# Altium footprint library FP-SMD-Passive.PcbLib: 73 footprints (part 1 of 5)
Each footprint in its own frame and in the unit in brackets; x right, y up, seen from the top. Pads: shape width x height; smd on the part's side, far side on the other; paste and mask are expansions set on the pad; w line width, h text height; cw(c..) or ccw(c..) is an arc to the next point about the centre after c.
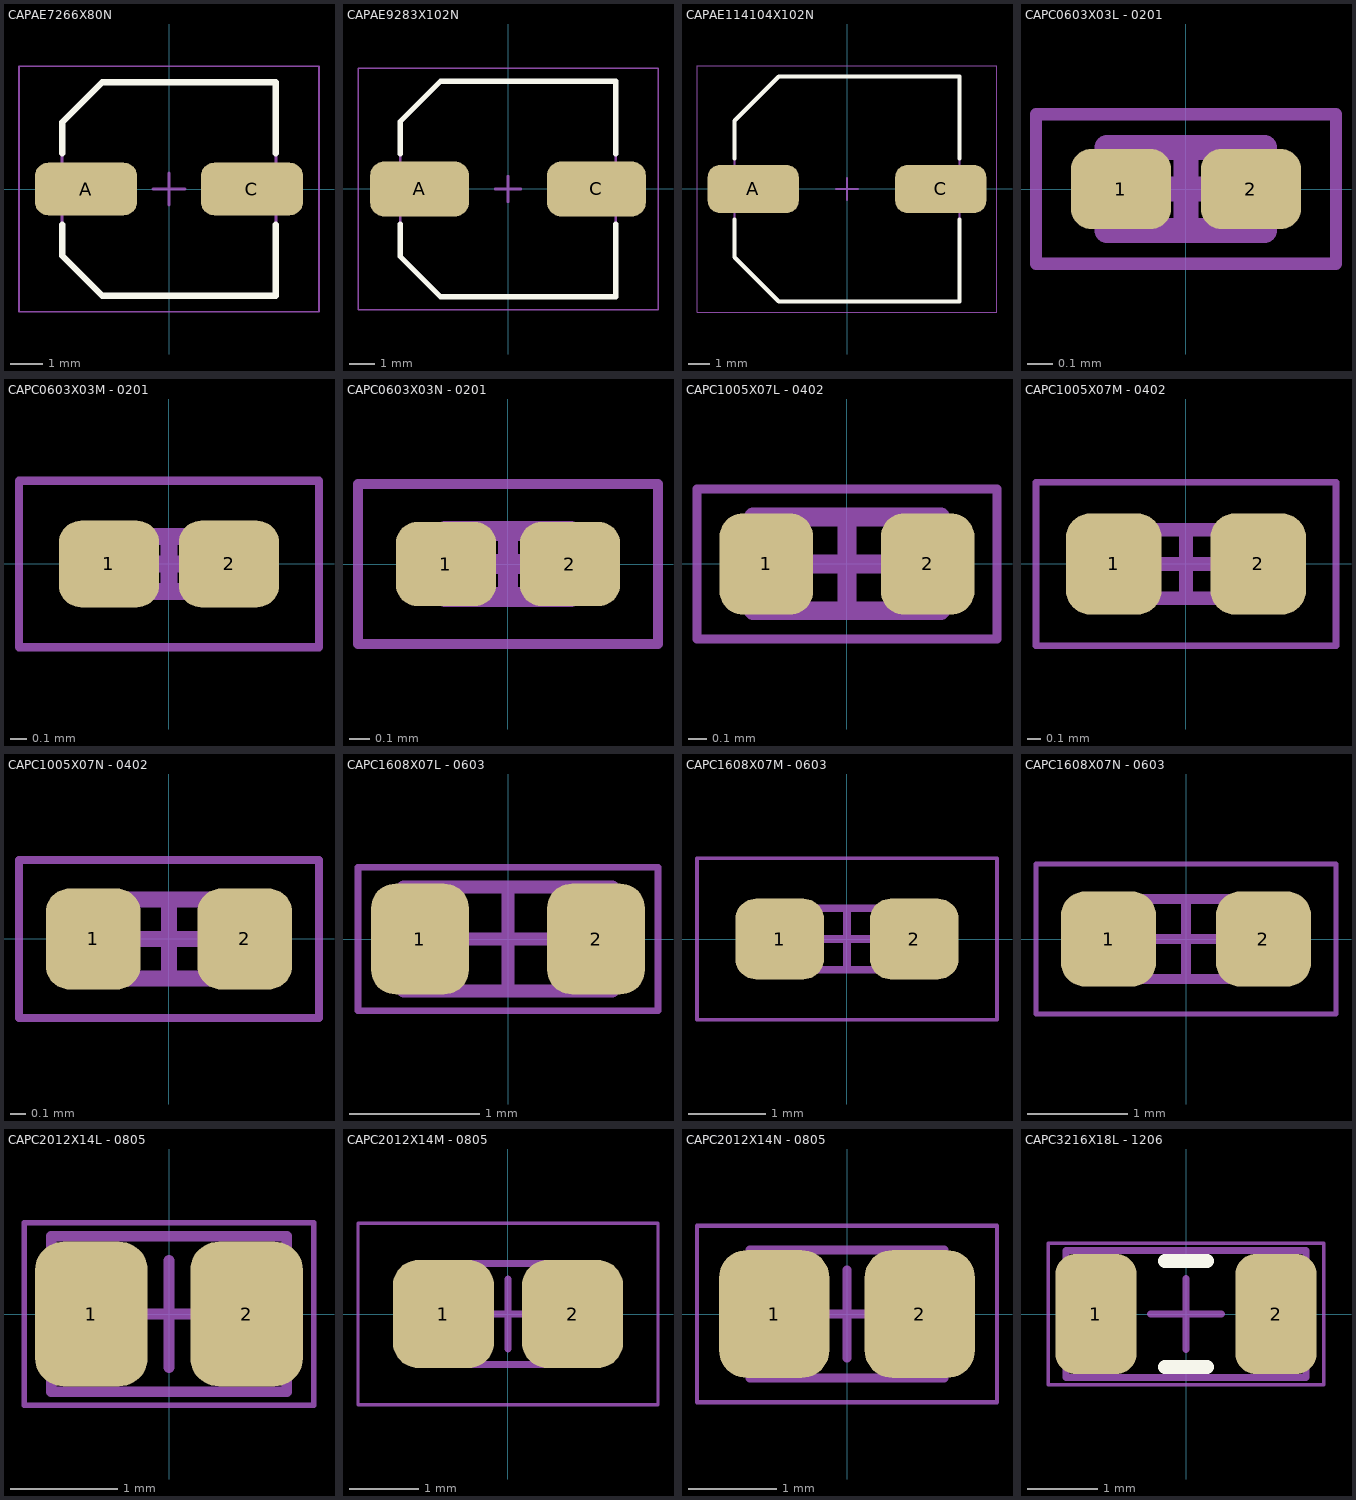
[diagram p0: the footprints below, top view; thin cyan lines are the x and y axes]

## CAPAE7266X80N [mm] "Aluminum Electrolytic Capacitor, Body 6/65x6/65x8/00mm, IPC Medium Density"
height 8
pads (2):
  rrect50% 3.2x1.65 smd: A(-2.6,0) C(2.6,0)
Top Overlay:
  lines w0.2: -3.35,-1.125 -3.35,-2.088 -2.087,-3.35 3.35,-3.35 3.35,-1.125 ; -3.35,1.125 -3.35,2.087 -2.087,3.35 3.35,3.35 3.35,1.125
Top Courtyard:
  lines w0.05: -4.7,-3.85 -4.7,3.85 4.7,3.85 4.7,-3.85 -4.7,-3.85
  lines w0.1: -0.5,0 0.5,0 ; 0,-0.5 0,0.5
Top Assembly:
  lines w0.1: -3.35,-2.088 -2.087,-3.35 3.35,-3.35 3.35,3.35 -2.087,3.35 -3.35,2.087 -3.35,-2.088
  text "'.Designator'" at 0.254,0.762 h1.52
3D body "CAPAE7266X80N.step": height 8, standoff 0, extent -3.625,-3.35 3.625,3.35

## CAPAE9283X102N [mm] "Aluminum Electrolytic Capacitor, Body 8/30x8/30x10/20mm, IPC Medium Density"
height 10.2
pads (2):
  rrect50% 3.85x2.15 smd: A(-3.45,0) C(3.45,0)
Top Overlay:
  lines w0.2: -4.2,-1.375 -4.2,-2.638 -2.638,-4.2 4.2,-4.2 4.2,-1.375 ; -4.2,1.375 -4.2,2.637 -2.638,4.2 4.2,4.2 4.2,1.375
Top Courtyard:
  lines w0.05: -5.85,-4.7 -5.85,4.7 5.85,4.7 5.85,-4.7 -5.85,-4.7
  lines w0.1: -0.5,0 0.5,0 ; 0,-0.5 0,0.5
Top Assembly:
  lines w0.1: -4.2,-2.638 -2.638,-4.2 4.2,-4.2 4.2,4.2 -2.638,4.2 -4.2,2.637 -4.2,-2.638
  text "'.Designator'" at 0.254,0.762 h1.52
3D body "CAPAE9283X102N.step": height 10.2, standoff 0, extent -4.587,-4.2 4.587,4.2

## CAPAE114104X102N [mm] "Aluminum Electrolytic Capacitor, Body 10/45x10/45x10/20mm, IPC Medium Density"
height 10.2
pads (2):
  rrect50% 4.25x2.25 smd: A(-4.375,0) C(4.375,0)
Top Overlay:
  lines w0.2: -5.25,-1.425 -5.25,-3.188 -3.187,-5.25 5.25,-5.25 5.25,-1.425 ; -5.25,1.425 -5.25,3.187 -3.187,5.25 5.25,5.25 5.25,1.425
Top Courtyard:
  lines w0.05: -7,-5.75 7,-5.75 7,5.75 -7,5.75 -7,-5.75
  lines w0.1: -0.5,0 0.5,0 ; 0,-0.5 0,0.5
Top Assembly:
  lines w0.1: -5.25,-3.188 -5.25,3.187 -3.187,5.25 5.25,5.25 5.25,-5.25 -3.187,-5.25 -5.25,-3.188
  text "'.Designator'" at 0.254,0.762 h1.52
3D body "CAPAE114104X102N.step": height 10.2, standoff 0, extent -5.725,-5.25 5.725,5.25

## CAPC0603X03L - 0201 [mm] "Chip Capacitor, 2-Leads, Body 0/60x0/30mm, IPC High Density"
height 0.33
pads (2):
  rrect50% 0.4x0.32 smd: 1(-0.26,0) 2(0.26,0)
Top Courtyard:
  lines w0.05: -0.6,-0.3 -0.6,0.3 0.6,0.3 0.6,-0.3 -0.6,-0.3
  lines w0.1: -0.165,0 0.165,0 ; 0,-0.165 0,0.165
Top Assembly:
  lines w0.1: -0.315,-0.165 -0.315,0.165 0.315,0.165 0.315,-0.165 -0.315,-0.165
  text "'.Designator'" at 0.1,0.3 h0.6
3D body "CAPC0603X03L.step": height 0.33, standoff 0, extent -0.315,-0.165 0.315,0.165

## CAPC0603X03M - 0201 [mm] "Chip Capacitor, 2-Leads, Body 0/60x0/30mm, IPC Low Density"
height 0.33
pads (2):
  rrect50% 0.6x0.52 smd: 1(-0.36,0) 2(0.36,0)
Top Courtyard:
  lines w0.05: -0.9,-0.5 -0.9,0.5 0.9,0.5 0.9,-0.5 -0.9,-0.5
  lines w0.1: -0.165,0 0.165,0 ; 0,-0.165 0,0.165
Top Assembly:
  lines w0.1: -0.315,-0.165 -0.315,0.165 0.315,0.165 0.315,-0.165 -0.315,-0.165
  text "'.Designator'" at 0.1,0.3 h0.6
3D body "CAPC0603X03M.step": height 0.33, standoff 0, extent -0.315,-0.165 0.315,0.165

## CAPC0603X03N - 0201 [mm] "Chip Capacitor, 2-Leads, Body 0/60x0/30mm, IPC Medium Density"
height 0.33
pads (2):
  rrect50% 0.5x0.42 smd: 1(-0.31,0) 2(0.31,0)
Top Courtyard:
  lines w0.05: -0.75,-0.4 -0.75,0.4 0.75,0.4 0.75,-0.4 -0.75,-0.4
  lines w0.1: -0.165,0 0.165,0 ; 0,-0.165 0,0.165
Top Assembly:
  lines w0.1: -0.315,-0.165 -0.315,0.165 0.315,0.165 0.315,-0.165 -0.315,-0.165
  text "'.Designator'" at 0.1,0.3 h0.6
3D body "CAPC0603X03N.step": height 0.33, standoff 0, extent -0.315,-0.165 0.315,0.165

## CAPC1005X07L - 0402 [mm] "Chip Capacitor, 2-Leads, Body 1/00x0/50mm, IPC High Density"
height 0.7
pads (2):
  rrect50% 0.5x0.54 smd: 1(-0.43,0) 2(0.43,0)
Top Courtyard:
  lines w0.05: -0.8,-0.4 -0.8,0.4 0.8,0.4 0.8,-0.4 -0.8,-0.4
  lines w0.1: -0.25,0 0.25,0 ; 0,-0.25 0,0.25
Top Assembly:
  lines w0.1: -0.5,-0.25 -0.5,0.25 0.5,0.25 0.5,-0.25 -0.5,-0.25
  text "'.Designator'" at 0.1,0.3 h0.6
3D body "CAPC1005X07L.step": height 0.7, standoff 0, extent -0.5,-0.25 0.5,0.25

## CAPC1005X07M - 0402 [mm] "Chip Capacitor, 2-Leads, Body 1/00x0/50mm, IPC Low Density"
height 0.7
pads (2):
  rrect50% 0.7x0.74 smd: 1(-0.53,0) 2(0.53,0)
Top Courtyard:
  lines w0.05: -1.1,-0.6 1.1,-0.6 1.1,0.6 -1.1,0.6 -1.1,-0.6
  lines w0.1: -0.25,0 0.25,0 ; 0,-0.25 0,0.25
Top Assembly:
  lines w0.1: -0.5,-0.25 0.5,-0.25 0.5,0.25 -0.5,0.25 -0.5,-0.25
  text "'.Designator'" at 0.1,0.3 h0.6
3D body "CAPC1005X07M.step": height 0.7, standoff 0, extent -0.5,-0.25 0.5,0.25

## CAPC1005X07N - 0402 [mm] "Chip Capacitor, 2-Leads, Body 1/00x0/50mm, IPC Medium Density"
height 0.7
pads (2):
  rrect50% 0.6x0.64 smd: 1(-0.48,0) 2(0.48,0)
Top Courtyard:
  lines w0.05: -0.95,-0.5 0.95,-0.5 0.95,0.5 -0.95,0.5 -0.95,-0.5
  lines w0.1: -0.25,0 0.25,0 ; 0,-0.25 0,0.25
Top Assembly:
  lines w0.1: -0.5,-0.25 0.5,-0.25 0.5,0.25 -0.5,0.25 -0.5,-0.25
  text "'.Designator'" at 0.1,0.3 h0.6
3D body "CAPC1005X07N.step": height 0.7, standoff 0, extent -0.5,-0.25 0.5,0.25

## CAPC1608X07L - 0603 [mm] "Chip Capacitor, 2-Leads, Body 1/60x0/80mm, IPC High Density"
height 0.7
pads (2):
  rrect50% 0.75x0.85 smd: 1(-0.675,0) 2(0.675,0)
Top Courtyard:
  lines w0.05: -1.15,-0.55 1.15,-0.55 1.15,0.55 -1.15,0.55 -1.15,-0.55
  lines w0.1: -0.4,0 0.4,0 ; 0,-0.4 0,0.4
Top Assembly:
  lines w0.1: -0.8,-0.4 0.8,-0.4 0.8,0.4 -0.8,0.4 -0.8,-0.4
  text "'.Designator'" at 0.1,0.3 h0.6
3D body "CAPC1608X07L.step": height 0.7, standoff 0, extent -0.8,-0.4 0.8,0.4

## CAPC1608X07M - 0603 [mm] "Chip Capacitor, 2-Leads, Body 1/60x0/80mm, IPC Low Density"
height 0.7
pads (2):
  rrect50% 1.15x1.05 smd: 1(-0.875,0) 2(0.875,0)
Top Courtyard:
  lines w0.05: -1.95,-1.05 -1.95,1.05 1.95,1.05 1.95,-1.05 -1.95,-1.05
  lines w0.1: -0.4,0 0.4,0 ; 0,-0.4 0,0.4
Top Assembly:
  lines w0.1: -0.8,-0.4 -0.8,0.4 0.8,0.4 0.8,-0.4 -0.8,-0.4
  text "'.Designator'" at 0.1,0.3 h0.6
3D body "CAPC1608X07M.step": height 0.7, standoff 0, extent -0.8,-0.4 0.8,0.4

## CAPC1608X07N - 0603 [mm] "Chip Capacitor, 2-Leads, Body 1/60x0/80mm, IPC Medium Density"
height 0.7
pads (2):
  rrect50% 0.95x0.95 smd: 1(-0.775,0) 2(0.775,0)
Top Courtyard:
  lines w0.05: -1.5,-0.75 -1.5,0.75 1.5,0.75 1.5,-0.75 -1.5,-0.75
  lines w0.1: -0.4,0 0.4,0 ; 0,-0.4 0,0.4
Top Assembly:
  lines w0.1: -0.8,-0.4 -0.8,0.4 0.8,0.4 0.8,-0.4 -0.8,-0.4
  text "'.Designator'" at 0.1,0.3 h0.6
3D body "CAPC1608X07N.step": height 0.7, standoff 0, extent -0.8,-0.4 0.8,0.4

## CAPC2012X14L - 0805 [mm] "Chip Capacitor, 2-Leads, Body 2/00x1/25mm, IPC High Density"
height 1.45
pads (2):
  rrect50% 1.05x1.35 smd: 1(-0.725,0) 2(0.725,0)
Top Courtyard:
  lines w0.05: -1.35,-0.85 1.35,-0.85 1.35,0.85 -1.35,0.85 -1.35,-0.85
  lines w0.1: -0.5,0 0.5,0 ; 0,-0.5 0,0.5
Top Assembly:
  lines w0.1: -1.1,-0.725 1.1,-0.725 1.1,0.725 -1.1,0.725 -1.1,-0.725
  text "'.Designator'" at 0.1,0.3 h0.6
3D body "CAPC2012X14L.step": height 1.45, standoff 0, extent -1.1,-0.725 1.1,0.725

## CAPC2012X14M - 0805 [mm] "Chip Capacitor, 2-Leads, Body 2/00x1/25mm, IPC Low Density"
height 1.45
pads (2):
  rrect50% 1.45x1.55 smd: 1(-0.925,0) 2(0.925,0)
Top Courtyard:
  lines w0.05: -2.15,-1.3 -2.15,1.3 2.15,1.3 2.15,-1.3 -2.15,-1.3
  lines w0.1: -0.5,0 0.5,0 ; 0,-0.5 0,0.5
Top Assembly:
  lines w0.1: -1.1,-0.725 -1.1,0.725 1.1,0.725 1.1,-0.725 -1.1,-0.725
  text "'.Designator'" at 0.1,0.3 h0.6
3D body "CAPC2012X14M.step": height 1.45, standoff 0, extent -1.1,-0.725 1.1,0.725

## CAPC2012X14N - 0805 [mm] "Chip Capacitor, 2-Leads, Body 2/00x1/25mm, IPC Medium Density"
height 1.45
pads (2):
  rrect50% 1.25x1.45 smd: 1(-0.825,0) 2(0.825,0)
Top Courtyard:
  lines w0.05: -1.7,-1 -1.7,1 1.7,1 1.7,-1 -1.7,-1
  lines w0.1: -0.5,0 0.5,0 ; 0,-0.5 0,0.5
Top Assembly:
  lines w0.1: -1.1,-0.725 -1.1,0.725 1.1,0.725 1.1,-0.725 -1.1,-0.725
  text "'.Designator'" at 0.1,0.3 h0.6
3D body "CAPC2012X14N.step": height 1.45, standoff 0, extent -1.1,-0.725 1.1,0.725

## CAPC3216X18L - 1206 [mm] "Chip Capacitor, 2-Leads, Body 3/20x1/60mm, IPC High Density"
height 1.8
pads (2):
  rrect50% 1.15x1.7 smd: 1(-1.275,0) 2(1.275,0)
Top Overlay:
  lines w0.2: -0.3,-0.75 0.3,-0.75 ; -0.3,0.75 0.3,0.75
Top Courtyard:
  lines w0.05: -1.95,-1 -1.95,1 1.95,1 1.95,-1 -1.95,-1
  lines w0.1: -0.5,0 0.5,0 ; 0,-0.5 0,0.5
Top Assembly:
  lines w0.1: -1.7,-0.9 -1.7,0.9 1.7,0.9 1.7,-0.9 -1.7,-0.9
  text "'.Designator'" at 0.1,0.3 h0.6
3D body "CAPC3216X18L.step": height 1.8, standoff 0, extent -1.7,-0.9 1.7,0.9